# Altium schematic symbol library ICs.SchLib: 182 symbols (part 2 of 2)
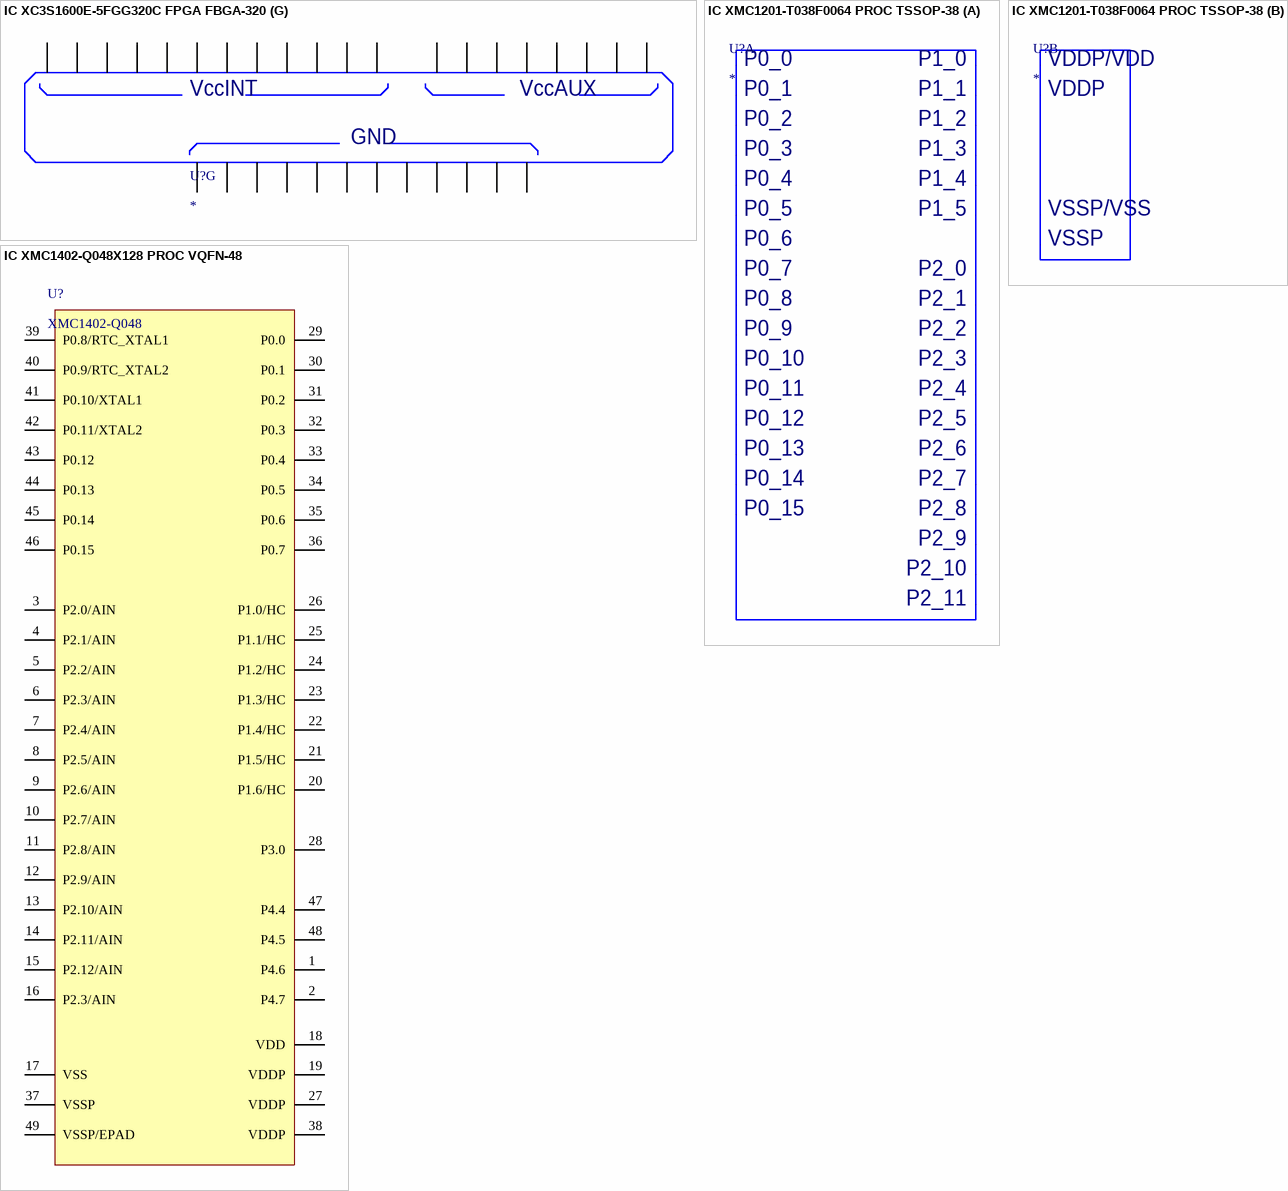
[diagram p18: symbols IC XC3S1600E-5FGG320C FPGA FBGA-320 to IC XMC1402-Q048X128 PROC VQFN-48]

## IC XMC1402-Q048X128 PROC VQFN-48
designator U?, comment XMC1402-Q048
=Description
pins: 1 P4.6, 2 P4.7, 3 P2.0/AIN, 4 P2.1/AIN, 5 P2.2/AIN, 6 P2.3/AIN, 7 P2.4/AIN, 8 P2.5/AIN, 9 P2.6/AIN, 10 P2.7/AIN, 11 P2.8/AIN, 12 P2.9/AIN, 13 P2.10/AIN, 14 P2.11/AIN, 15 P2.12/AIN, 16 P2.3/AIN, 17 VSS, 18 VDD, 19 VDDP, 20 P1.6/HC, 21 P1.5/HC, 22 P1.4/HC, 23 P1.3/HC, 24 P1.2/HC, 25 P1.1/HC, 26 P1.0/HC, 27 VDDP, 28 P3.0, 29 P0.0, 30 P0.1, 31 P0.2, 32 P0.3, 33 P0.4, 34 P0.5, 35 P0.6, 36 P0.7, 37 VSSP, 38 VDDP, 39 P0.8/RTC_XTAL1, 40 P0.9/RTC_XTAL2, 41 P0.10/XTAL1, 42 P0.11/XTAL2, 43 P0.12, 44 P0.13, 45 P0.14, 46 P0.15, 47 P4.4, 48 P4.5, 49 VSSP/EPAD

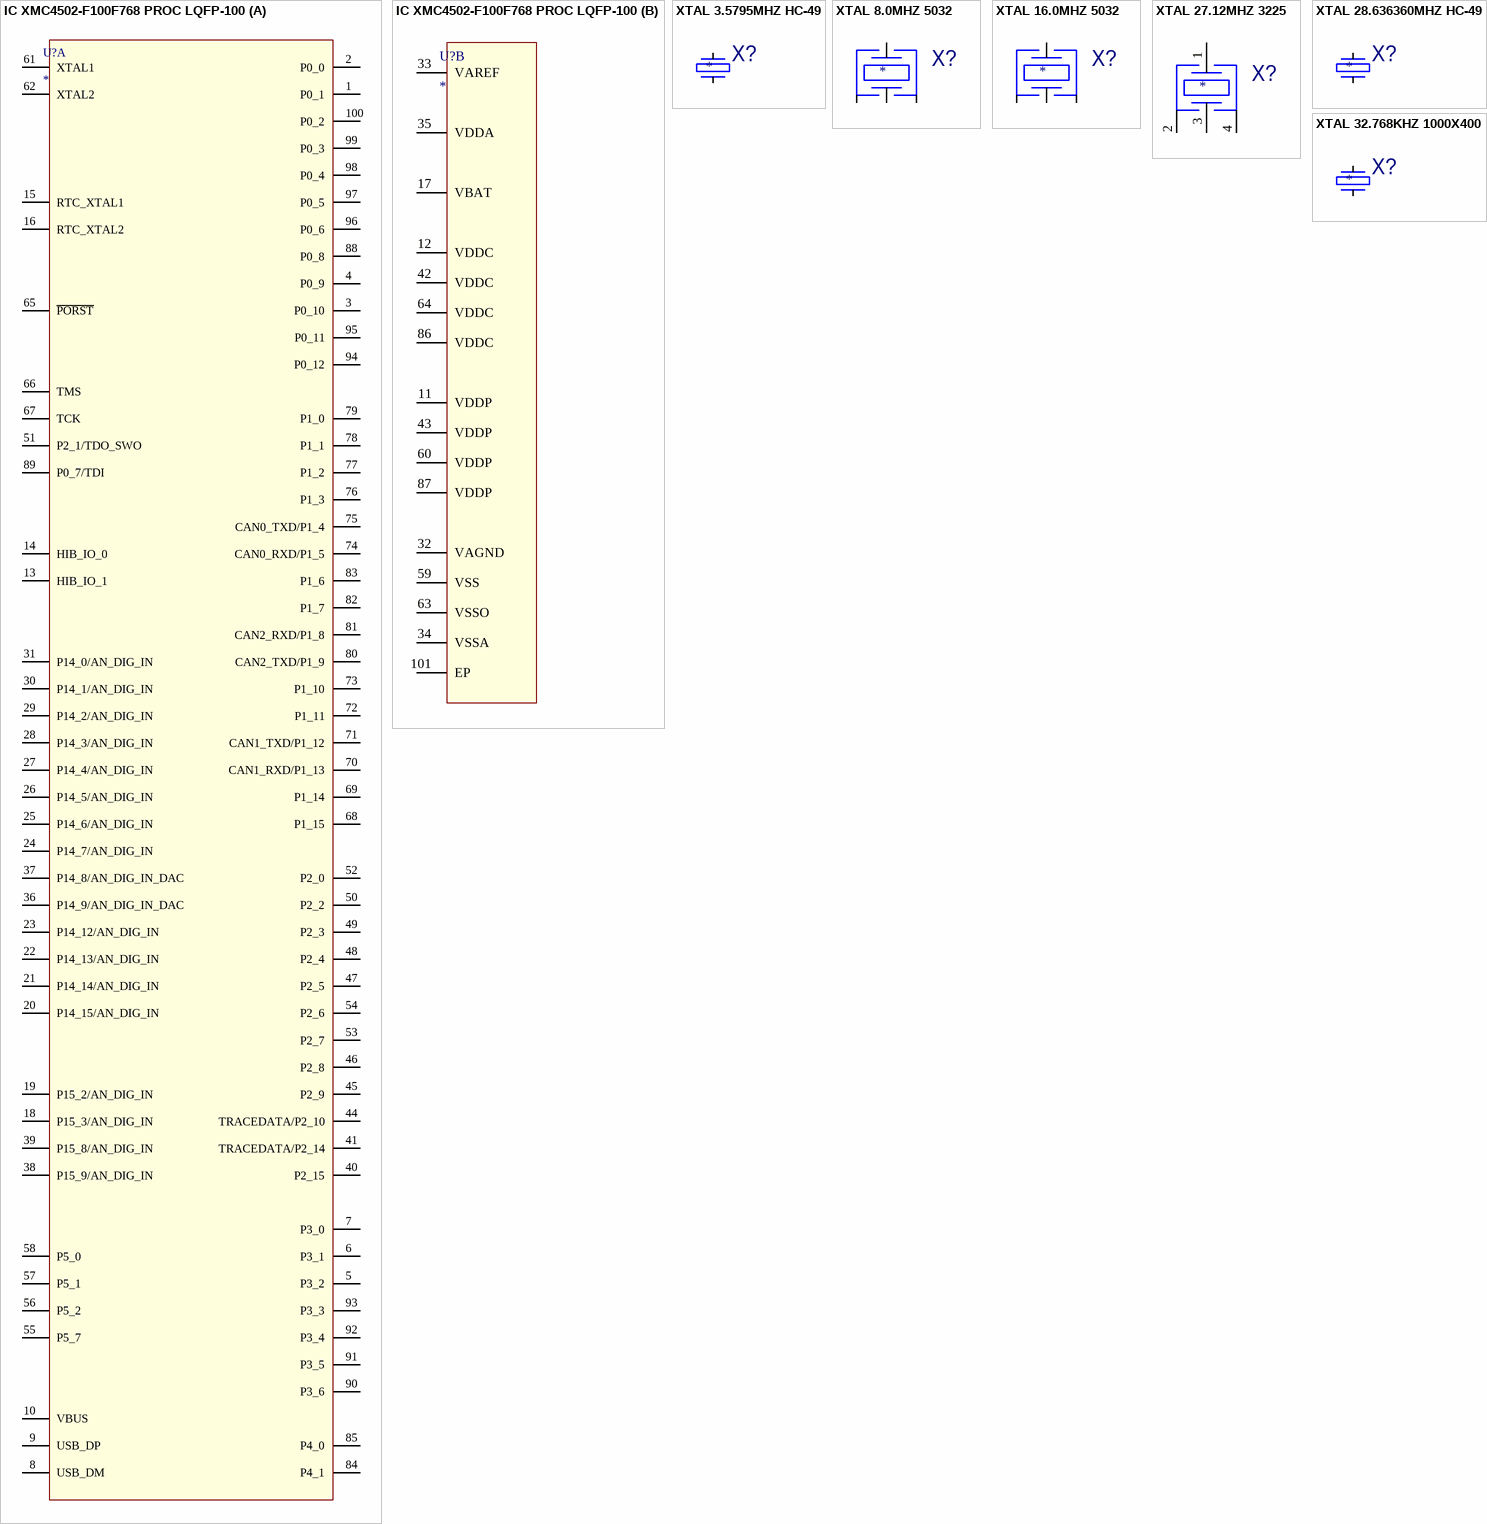
[diagram p17: symbols IC XMC4502-F100F768 PROC LQFP-100 to XTAL 32.768KHZ 1000X400]

## IC XMC4502-F100F768 PROC LQFP-100
designator U?
=Description
part A pins: 1 P0_1, 2 P0_0, 3 P0_10, 4 P0_9, 5 P3_2, 6 P3_1, 7 P3_0, 8 USB_DM, 9 USB_DP, 10 VBUS, 13 HIB_IO_1, 14 HIB_IO_0, 15 RTC_XTAL1, 16 RTC_XTAL2, 18 P15_3/AN_DIG_IN, 19 P15_2/AN_DIG_IN, 20 P14_15/AN_DIG_IN, 21 P14_14/AN_DIG_IN, 22 P14_13/AN_DIG_IN, 23 P14_12/AN_DIG_IN, 24 P14_7/AN_DIG_IN, 25 P14_6/AN_DIG_IN, 26 P14_5/AN_DIG_IN, 27 P14_4/AN_DIG_IN, 28 P14_3/AN_DIG_IN, 29 P14_2/AN_DIG_IN, 30 P14_1/AN_DIG_IN, 31 P14_0/AN_DIG_IN, 36 P14_9/AN_DIG_IN_DAC, 37 P14_8/AN_DIG_IN_DAC, 38 P15_9/AN_DIG_IN, 39 P15_8/AN_DIG_IN, 40 P2_15, 41 TRACEDATA/P2_14, 44 TRACEDATA/P2_10, 45 P2_9, 46 P2_8, 47 P2_5, 48 P2_4, 49 P2_3, 50 P2_2, 51 P2_1/TDO_SWO, 52 P2_0, 53 P2_7, 54 P2_6, 55 P5_7, 56 P5_2, 57 P5_1, 58 P5_0, 61 XTAL1, 62 XTAL2, 65 ~{PORST}, 66 TMS, 67 TCK, 68 P1_15, 69 P1_14, 70 CAN1_RXD/P1_13, 71 CAN1_TXD/P1_12, 72 P1_11, 73 P1_10, 74 CAN0_RXD/P1_5, 75 CAN0_TXD/P1_4, 76 P1_3, 77 P1_2, 78 P1_1, 79 P1_0, 80 CAN2_TXD/P1_9, 81 CAN2_RXD/P1_8, 82 P1_7, 83 P1_6, 84 P4_1, 85 P4_0, 88 P0_8, 89 P0_7/TDI, 90 P3_6, 91 P3_5, 92 P3_4, 93 P3_3, 94 P0_12, 95 P0_11, 96 P0_6, 97 P0_5, 98 P0_4, 99 P0_3, 100 P0_2
part B pins: 11 VDDP, 12 VDDC, 17 VBAT, 32 VAGND, 33 VAREF, 34 VSSA, 35 VDDA, 42 VDDC, 43 VDDP, 59 VSS, 60 VDDP, 63 VSSO, 64 VDDC, 86 VDDC, 87 VDDP, 101 EP

## XTAL 3.5795MHZ HC-49
designator X?
=Description
pins: 1, 2

## XTAL 8.0MHZ 5032
designator X?
=Description
pins: 1, 2, 3, 4

## XTAL 16.0MHZ 5032
designator X?
=Description
pins: 1, 2, 3, 4

## XTAL 27.12MHZ 3225
designator X?
=Description
pins: 1, 2, 3, 4

## XTAL 28.636360MHZ HC-49
designator X?
=Description
pins: 1, 2

## XTAL 32.768KHZ 1000X400
designator X?
=Description
pins: 1, 4